# EAGLE library part CAT4016 (library jasons_stuff)
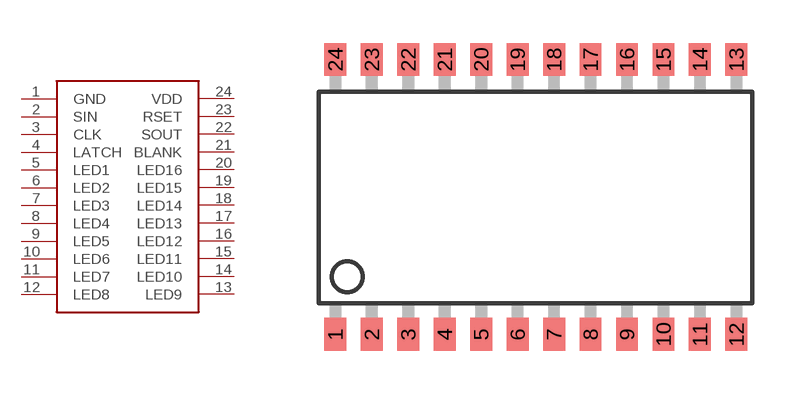
[diagram p6: symbol with the pads of SOIC18-W; footprint SOIC18-W]

Designator prefix -

## CAT4016  [SOIC18-W]
1  GND  pwr
2  SIN
3  CLK
4  LATCH
5  LED1  out
6  LED2  out
7  LED3  out
8  LED4  out
9  LED5  out
10  LED6  out
11  LED7  out
12  LED8  out
13  LED9  out
14  LED10  out
15  LED11  out
16  LED12
17  LED13  out
18  LED14  out
19  LED15  out
20  LED16  out
21  BLANK
22  SOUT
23  RSET
24  VDD  pwr

## Footprint SOIC18-W (pad centres in mm)
smd 0.762 x 1.143: 1 -5.08,-4.788; 2 -3.81,-4.788; 3 -2.54,-4.788; 4 -1.27,-4.788; 5 0,-4.788; 6 1.27,-4.788; 7 2.54,-4.788; 8 3.81,-4.788; 9 5.08,-4.788; 10 6.35,-4.788; 11 7.62,-4.788; 12 8.89,-4.788; 13 8.89,4.788; 14 7.62,4.788; 15 6.35,4.788; 16 5.08,4.788; 17 3.81,4.788; 18 2.54,4.788; 19 1.27,4.788; 20 0,4.788; 21 -1.27,4.788; 22 -2.54,4.788; 23 -3.81,4.788; 24 -5.08,4.788